# Altium schematic symbol library jlcpcb_2025_04_ferrites_extended_0805.schlib: 546 symbols (part 3 of 10)
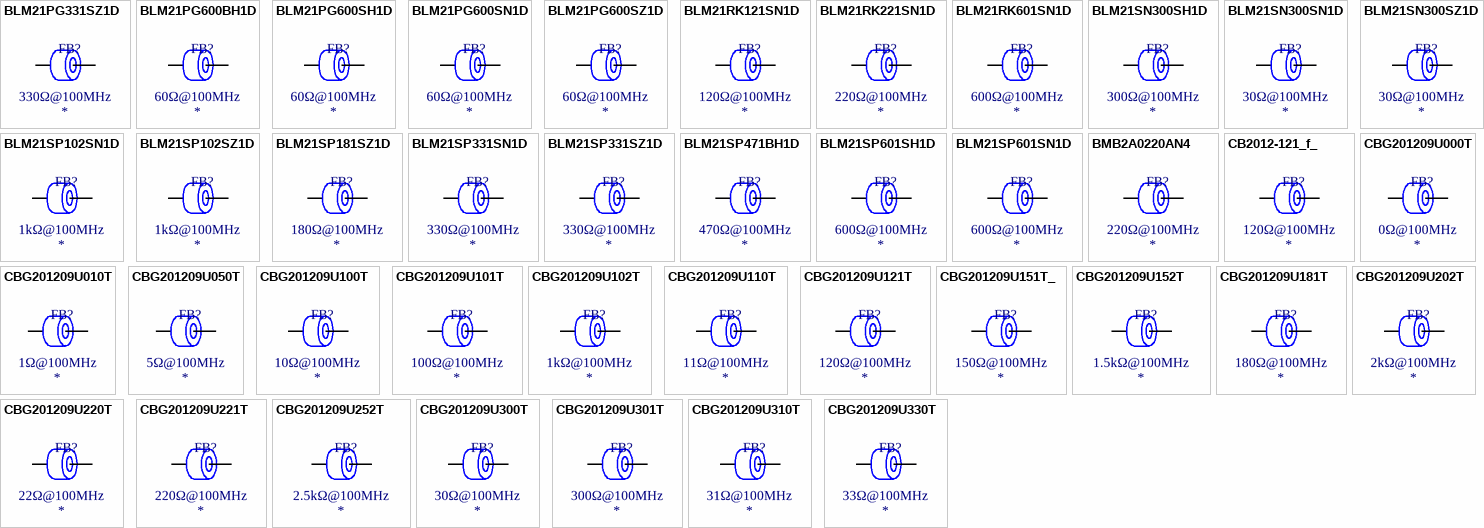
[diagram p15: symbols BLM21PG331SZ1D to CBG201209U330T]

## CBG201209U181T
designator FB?  Impedance @ Frequency: 180Ω@100MHz
Ferrite, 180Ω@100MHz, ±25%, 200mΩ, 400mA, SMD 0805; Manufacturer: FH(Guangdong Fenghua Advanced Tech); Manufacturer Part Number: CBG201209U181T; Package Size: 0805; JLCPCB Basic Part: No; JLCPCB Part Number: C668233; Supplier 1: LCSC; Category: Ferrite Beads; Supplier Part Number 1: C668233; Tolerance: ±25%; Rated Current: 400mA; DC Resistance: 200mΩ; RoHS: Yes; ComponentLink1Description: Datasheet; ComponentLink1URL: https://wmsc.lcsc.com/wmsc/upload/file/pdf/v2/lcsc/2304140030_FH--Guangdong-Fenghua-Advanced-Tech-CBG201209U181T_C668233.pdf; ComponentLink2Description: JLCPCB Part URL; ComponentLink2URL: https://jlcpcb.com/partdetail/C668233; ComponentLink3Description: LCSC Part URL; ComponentLink3URL: https://lcsc.com/product-detail/Ferrite-Beads_FH-Guangdong-Fenghua-Advanced-Tech-FH-Guangdong-Fenghua-Advanced-Tech-CBG201209U181T_C668233.html
footprint FB-0805 (0805 (2012M) Ferrite)
pins: 1, 2

## CBG201209U202T
designator FB?  Impedance @ Frequency: 2kΩ@100MHz
Ferrite, 2kΩ@100MHz, ±25%, 900mΩ, 50mA, SMD 0805; Manufacturer: FH(Guangdong Fenghua Advanced Tech); Manufacturer Part Number: CBG201209U202T; Package Size: 0805; JLCPCB Basic Part: No; JLCPCB Part Number: C20119; Supplier 1: LCSC; Category: Ferrite Beads; Supplier Part Number 1: C20119; Tolerance: ±25%; Rated Current: 50mA; DC Resistance: 900mΩ; RoHS: Yes; ComponentLink1Description: Datasheet; ComponentLink1URL: https://wmsc.lcsc.com/wmsc/upload/file/pdf/v2/lcsc/1811061714_FH--Guangdong-Fenghua-Advanced-Tech-CBG201209U202T_C20119.pdf; ComponentLink2Description: JLCPCB Part URL; ComponentLink2URL: https://jlcpcb.com/partdetail/C20119; ComponentLink3Description: LCSC Part URL; ComponentLink3URL: https://lcsc.com/product-detail/Ferrite-Beads_FH-Guangdong-Fenghua-Advanced-Tech-FH-Guangdong-Fenghua-Advanced-Tech-CBG201209U202T_C20119.html
footprint FB-0805 (0805 (2012M) Ferrite)
pins: 1, 2

## CBG201209U220T
designator FB?  Impedance @ Frequency: 22Ω@100MHz
Ferrite, 22Ω@100MHz, ±25%, SMD 0805; Manufacturer: FH(Guangdong Fenghua Advanced Tech); Manufacturer Part Number: CBG201209U220T; Package Size: 0805; JLCPCB Basic Part: No; JLCPCB Part Number: C74479; Supplier 1: LCSC; Category: Ferrite Beads; Supplier Part Number 1: C74479; Tolerance: ±25%; RoHS: Yes; ComponentLink1Description: Datasheet; ComponentLink1URL: https://wmsc.lcsc.com/wmsc/upload/file/pdf/v2/lcsc/2304140030_FH--Guangdong-Fenghua-Advanced-Tech-CBG201209U220T_C74479.pdf; ComponentLink2Description: JLCPCB Part URL; ComponentLink2URL: https://jlcpcb.com/partdetail/C74479; ComponentLink3Description: LCSC Part URL; ComponentLink3URL: https://lcsc.com/product-detail/Ferrite-Beads_FH-Guangdong-Fenghua-Advanced-Tech-FH-Guangdong-Fenghua-Advanced-Tech-CBG201209U220T_C74479.html
pins: 1, 2

## CBG201209U221T
designator FB?  Impedance @ Frequency: 220Ω@100MHz
Ferrite, 220Ω@100MHz, ±25%, 200mΩ, 400mA, SMD 0805; Manufacturer: FH(Guangdong Fenghua Advanced Tech); Manufacturer Part Number: CBG201209U221T; Package Size: 0805; JLCPCB Basic Part: No; JLCPCB Part Number: C124102; Supplier 1: LCSC; Category: Ferrite Beads; Supplier Part Number 1: C124102; Tolerance: ±25%; Rated Current: 400mA; DC Resistance: 200mΩ; RoHS: Yes; ComponentLink1Description: Datasheet; ComponentLink1URL: https://wmsc.lcsc.com/wmsc/upload/file/pdf/v2/lcsc/2304140030_FH--Guangdong-Fenghua-Advanced-Tech-CBG201209U221T_C124102.pdf; ComponentLink2Description: JLCPCB Part URL; ComponentLink2URL: https://jlcpcb.com/partdetail/C124102; ComponentLink3Description: LCSC Part URL; ComponentLink3URL: https://lcsc.com/product-detail/Ferrite-Beads_FH-Guangdong-Fenghua-Advanced-Tech-FH-Guangdong-Fenghua-Advanced-Tech-CBG201209U221T_C124102.html
footprint FB-0805 (0805 (2012M) Ferrite)
pins: 1, 2

## CBG201209U252T
designator FB?  Impedance @ Frequency: 2.5kΩ@100MHz
Ferrite, 2.5kΩ@100MHz, ±25%, 1.2Ω, 50mA, SMD 0805; Manufacturer: FH(Guangdong Fenghua Advanced Tech); Manufacturer Part Number: CBG201209U252T; Package Size: 0805; JLCPCB Basic Part: No; JLCPCB Part Number: C139142; Supplier 1: LCSC; Category: Ferrite Beads; Supplier Part Number 1: C139142; Tolerance: ±25%; Rated Current: 50mA; DC Resistance: 1.2Ω; RoHS: Yes; ComponentLink1Description: Datasheet; ComponentLink1URL: https://wmsc.lcsc.com/wmsc/upload/file/pdf/v2/lcsc/2304140030_FH--Guangdong-Fenghua-Advanced-Tech-CBG201209U252T_C139142.pdf; ComponentLink2Description: JLCPCB Part URL; ComponentLink2URL: https://jlcpcb.com/partdetail/C139142; ComponentLink3Description: LCSC Part URL; ComponentLink3URL: https://lcsc.com/product-detail/Ferrite-Beads_FH-Guangdong-Fenghua-Advanced-Tech-FH-Guangdong-Fenghua-Advanced-Tech-CBG201209U252T_C139142.html
footprint FB-0805 (0805 (2012M) Ferrite)
pins: 1, 2

## CBG201209U300T
designator FB?  Impedance @ Frequency: 30Ω@100MHz
Ferrite, 30Ω@100MHz, ±25%, SMD 0805; Manufacturer: FH(Guangdong Fenghua Advanced Tech); Manufacturer Part Number: CBG201209U300T; Package Size: 0805; JLCPCB Basic Part: No; JLCPCB Part Number: C139143; Supplier 1: LCSC; Category: Ferrite Beads; Supplier Part Number 1: C139143; Tolerance: ±25%; RoHS: Yes; ComponentLink1Description: Datasheet; ComponentLink1URL: https://wmsc.lcsc.com/wmsc/upload/file/pdf/v2/lcsc/2304140030_FH--Guangdong-Fenghua-Advanced-Tech-CBG201209U300T_C139143.pdf; ComponentLink2Description: JLCPCB Part URL; ComponentLink2URL: https://jlcpcb.com/partdetail/C139143; ComponentLink3Description: LCSC Part URL; ComponentLink3URL: https://lcsc.com/product-detail/Ferrite-Beads_FH-Guangdong-Fenghua-Advanced-Tech-FH-Guangdong-Fenghua-Advanced-Tech-CBG201209U300T_C139143.html
pins: 1, 2

## CBG201209U301T
designator FB?  Impedance @ Frequency: 300Ω@100MHz
Ferrite, 300Ω@100MHz, ±25%, 250mΩ, 400mA, SMD 0805; Manufacturer: FH(Guangdong Fenghua Advanced Tech); Manufacturer Part Number: CBG201209U301T; Package Size: 0805; JLCPCB Basic Part: No; JLCPCB Part Number: C124101; Supplier 1: LCSC; Category: Ferrite Beads; Supplier Part Number 1: C124101; Tolerance: ±25%; Rated Current: 400mA; DC Resistance: 250mΩ; RoHS: Yes; ComponentLink1Description: Datasheet; ComponentLink1URL: https://wmsc.lcsc.com/wmsc/upload/file/pdf/v2/lcsc/2304140030_FH--Guangdong-Fenghua-Advanced-Tech-CBG201209U301T_C124101.pdf; ComponentLink2Description: JLCPCB Part URL; ComponentLink2URL: https://jlcpcb.com/partdetail/C124101; ComponentLink3Description: LCSC Part URL; ComponentLink3URL: https://lcsc.com/product-detail/Ferrite-Beads_FH-Guangdong-Fenghua-Advanced-Tech-FH-Guangdong-Fenghua-Advanced-Tech-CBG201209U301T_C124101.html
footprint FB-0805 (0805 (2012M) Ferrite)
pins: 1, 2

## CBG201209U310T
designator FB?  Impedance @ Frequency: 31Ω@100MHz
Ferrite, 31Ω@100MHz, ±25%, 100mΩ, 900mA, SMD 0805; Manufacturer: FH(Guangdong Fenghua Advanced Tech); Manufacturer Part Number: CBG201209U310T; Package Size: 0805; JLCPCB Basic Part: No; JLCPCB Part Number: C74482; Supplier 1: LCSC; Category: Ferrite Beads; Supplier Part Number 1: C74482; Tolerance: ±25%; Rated Current: 900mA; DC Resistance: 100mΩ; RoHS: Yes; ComponentLink1Description: Datasheet; ComponentLink1URL: https://wmsc.lcsc.com/wmsc/upload/file/pdf/v2/lcsc/2304140030_FH--Guangdong-Fenghua-Advanced-Tech-CBG201209U310T_C74482.pdf; ComponentLink2Description: JLCPCB Part URL; ComponentLink2URL: https://jlcpcb.com/partdetail/C74482; ComponentLink3Description: LCSC Part URL; ComponentLink3URL: https://lcsc.com/product-detail/Ferrite-Beads_FH-Guangdong-Fenghua-Advanced-Tech-FH-Guangdong-Fenghua-Advanced-Tech-CBG201209U310T_C74482.html
footprint FB-0805 (0805 (2012M) Ferrite)
pins: 1, 2

## CBG201209U330T
designator FB?  Impedance @ Frequency: 33Ω@100MHz
Ferrite, 33Ω@100MHz, ±25%, SMD 0805; Manufacturer: FH(Guangdong Fenghua Advanced Tech); Manufacturer Part Number: CBG201209U330T; Package Size: 0805; JLCPCB Basic Part: No; JLCPCB Part Number: C139144; Supplier 1: LCSC; Category: Ferrite Beads; Supplier Part Number 1: C139144; Tolerance: ±25%; RoHS: Yes; ComponentLink1Description: Datasheet; ComponentLink1URL: https://wmsc.lcsc.com/wmsc/upload/file/pdf/v2/lcsc/2304140030_FH--Guangdong-Fenghua-Advanced-Tech-CBG201209U330T_C139144.pdf; ComponentLink2Description: JLCPCB Part URL; ComponentLink2URL: https://jlcpcb.com/partdetail/C139144; ComponentLink3Description: LCSC Part URL; ComponentLink3URL: https://lcsc.com/product-detail/Ferrite-Beads_FH-Guangdong-Fenghua-Advanced-Tech-FH-Guangdong-Fenghua-Advanced-Tech-CBG201209U330T_C139144.html
pins: 1, 2

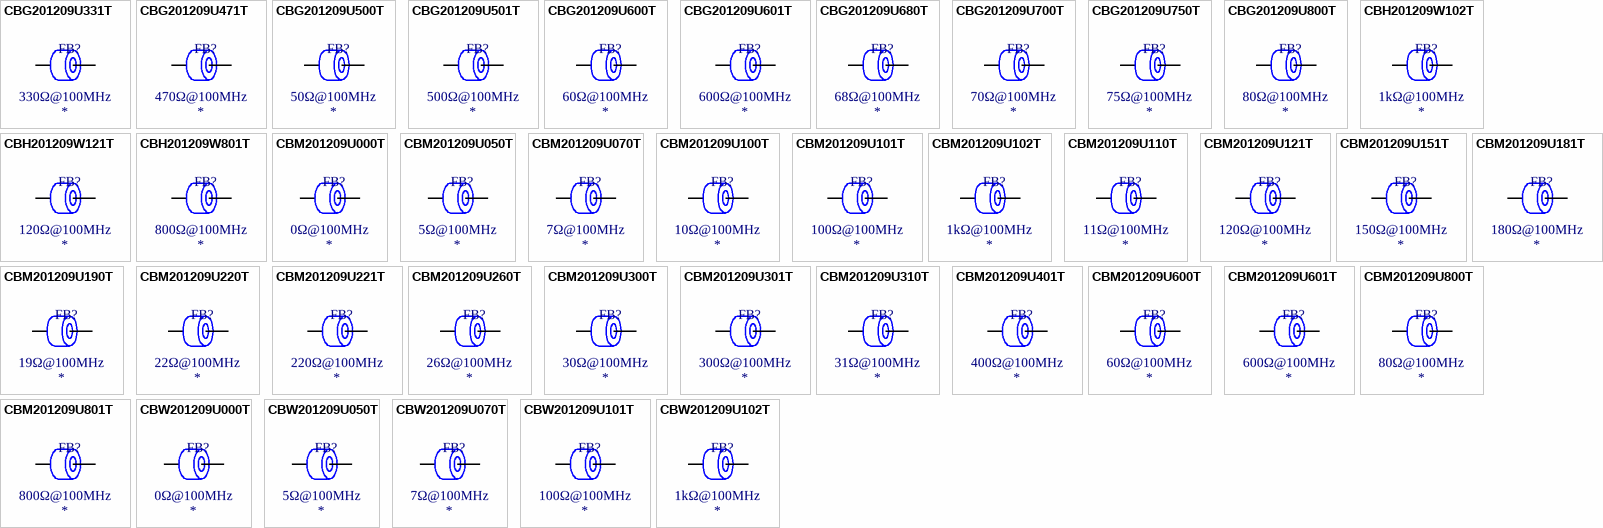
[diagram p3: symbols CBG201209U331T to CBW201209U102T]

## CBG201209U331T
designator FB?  Impedance @ Frequency: 330Ω@100MHz
Ferrite, 330Ω@100MHz, ±25%, SMD 0805; Manufacturer: FH(Guangdong Fenghua Advanced Tech); Manufacturer Part Number: CBG201209U331T; Package Size: 0805; JLCPCB Basic Part: No; JLCPCB Part Number: C139145; Supplier 1: LCSC; Category: Ferrite Beads; Supplier Part Number 1: C139145; Tolerance: ±25%; RoHS: Yes; ComponentLink1Description: Datasheet; ComponentLink1URL: https://wmsc.lcsc.com/wmsc/upload/file/pdf/v2/lcsc/2304140030_FH--Guangdong-Fenghua-Advanced-Tech-CBG201209U331T_C139145.pdf; ComponentLink2Description: JLCPCB Part URL; ComponentLink2URL: https://jlcpcb.com/partdetail/C139145; ComponentLink3Description: LCSC Part URL; ComponentLink3URL: https://lcsc.com/product-detail/Ferrite-Beads_FH-Guangdong-Fenghua-Advanced-Tech-FH-Guangdong-Fenghua-Advanced-Tech-CBG201209U331T_C139145.html
pins: 1, 2

## CBG201209U471T
designator FB?  Impedance @ Frequency: 470Ω@100MHz
Ferrite, 470Ω@100MHz, ±25%, SMD 0805; Manufacturer: FH(Guangdong Fenghua Advanced Tech); Manufacturer Part Number: CBG201209U471T; Package Size: 0805; JLCPCB Basic Part: No; JLCPCB Part Number: C139146; Supplier 1: LCSC; Category: Ferrite Beads; Supplier Part Number 1: C139146; Tolerance: ±25%; RoHS: Yes; ComponentLink1Description: Datasheet; ComponentLink1URL: https://wmsc.lcsc.com/wmsc/upload/file/pdf/v2/lcsc/2304140030_FH--Guangdong-Fenghua-Advanced-Tech-CBG201209U471T_C139146.pdf; ComponentLink2Description: JLCPCB Part URL; ComponentLink2URL: https://jlcpcb.com/partdetail/C139146; ComponentLink3Description: LCSC Part URL; ComponentLink3URL: https://lcsc.com/product-detail/Ferrite-Beads_FH-Guangdong-Fenghua-Advanced-Tech-FH-Guangdong-Fenghua-Advanced-Tech-CBG201209U471T_C139146.html
pins: 1, 2

## CBG201209U500T
designator FB?  Impedance @ Frequency: 50Ω@100MHz
Ferrite, 50Ω@100MHz, ±25%, 150mΩ, 900mA, SMD 0805; Manufacturer: FH(Guangdong Fenghua Advanced Tech); Manufacturer Part Number: CBG201209U500T; Package Size: 0805; JLCPCB Basic Part: No; JLCPCB Part Number: C668236; Supplier 1: LCSC; Category: Ferrite Beads; Supplier Part Number 1: C668236; Tolerance: ±25%; Rated Current: 900mA; DC Resistance: 150mΩ; RoHS: Yes; ComponentLink1Description: Datasheet; ComponentLink1URL: https://wmsc.lcsc.com/wmsc/upload/file/pdf/v2/lcsc/2304140030_FH--Guangdong-Fenghua-Advanced-Tech-CBG201209U500T_C668236.pdf; ComponentLink2Description: JLCPCB Part URL; ComponentLink2URL: https://jlcpcb.com/partdetail/C668236; ComponentLink3Description: LCSC Part URL; ComponentLink3URL: https://lcsc.com/product-detail/Ferrite-Beads_FH-Guangdong-Fenghua-Advanced-Tech-FH-Guangdong-Fenghua-Advanced-Tech-CBG201209U500T_C668236.html
footprint FB-0805 (0805 (2012M) Ferrite)
pins: 1, 2

## CBG201209U501T
designator FB?  Impedance @ Frequency: 500Ω@100MHz
Ferrite, 500Ω@100MHz, ±25%, 350mΩ, 300mA, SMD 0805; Manufacturer: FH(Guangdong Fenghua Advanced Tech); Manufacturer Part Number: CBG201209U501T; Package Size: 0805; JLCPCB Basic Part: No; JLCPCB Part Number: C139147; Supplier 1: LCSC; Category: Ferrite Beads; Supplier Part Number 1: C139147; Tolerance: ±25%; Rated Current: 300mA; DC Resistance: 350mΩ; RoHS: Yes; ComponentLink1Description: Datasheet; ComponentLink1URL: https://wmsc.lcsc.com/wmsc/upload/file/pdf/v2/lcsc/2304140030_FH--Guangdong-Fenghua-Advanced-Tech-CBG201209U501T_C139147.pdf; ComponentLink2Description: JLCPCB Part URL; ComponentLink2URL: https://jlcpcb.com/partdetail/C139147; ComponentLink3Description: LCSC Part URL; ComponentLink3URL: https://lcsc.com/product-detail/Ferrite-Beads_FH-Guangdong-Fenghua-Advanced-Tech-FH-Guangdong-Fenghua-Advanced-Tech-CBG201209U501T_C139147.html
footprint FB-0805 (0805 (2012M) Ferrite)
pins: 1, 2

## CBG201209U600T
designator FB?  Impedance @ Frequency: 60Ω@100MHz
Ferrite, 60Ω@100MHz, ±25%, 150mΩ, 900mA, SMD 0805; Manufacturer: FH(Guangdong Fenghua Advanced Tech); Manufacturer Part Number: CBG201209U600T; Package Size: 0805; JLCPCB Basic Part: No; JLCPCB Part Number: C87505; Supplier 1: LCSC; Category: Ferrite Beads; Supplier Part Number 1: C87505; Tolerance: ±25%; Rated Current: 900mA; DC Resistance: 150mΩ; RoHS: Yes; ComponentLink1Description: Datasheet; ComponentLink1URL: https://wmsc.lcsc.com/wmsc/upload/file/pdf/v2/lcsc/2304140030_FH--Guangdong-Fenghua-Advanced-Tech-CBG201209U600T_C87505.pdf; ComponentLink2Description: JLCPCB Part URL; ComponentLink2URL: https://jlcpcb.com/partdetail/C87505; ComponentLink3Description: LCSC Part URL; ComponentLink3URL: https://lcsc.com/product-detail/Ferrite-Beads_FH-Guangdong-Fenghua-Advanced-Tech-FH-Guangdong-Fenghua-Advanced-Tech-CBG201209U600T_C87505.html
footprint FB-0805 (0805 (2012M) Ferrite)
pins: 1, 2

## CBG201209U601T
designator FB?  Impedance @ Frequency: 600Ω@100MHz
Ferrite, 600Ω@100MHz, ±25%, 350mΩ, 300mA, SMD 0805; Manufacturer: FH(Guangdong Fenghua Advanced Tech); Manufacturer Part Number: CBG201209U601T; Package Size: 0805; JLCPCB Basic Part: No; JLCPCB Part Number: C124100; Supplier 1: LCSC; Category: Ferrite Beads; Supplier Part Number 1: C124100; Tolerance: ±25%; Rated Current: 300mA; DC Resistance: 350mΩ; RoHS: Yes; ComponentLink1Description: Datasheet; ComponentLink1URL: https://wmsc.lcsc.com/wmsc/upload/file/pdf/v2/lcsc/2304140030_FH--Guangdong-Fenghua-Advanced-Tech-CBG201209U601T_C124100.pdf; ComponentLink2Description: JLCPCB Part URL; ComponentLink2URL: https://jlcpcb.com/partdetail/C124100; ComponentLink3Description: LCSC Part URL; ComponentLink3URL: https://lcsc.com/product-detail/Ferrite-Beads_FH-Guangdong-Fenghua-Advanced-Tech-FH-Guangdong-Fenghua-Advanced-Tech-CBG201209U601T_C124100.html
footprint FB-0805 (0805 (2012M) Ferrite)
pins: 1, 2

## CBG201209U680T
designator FB?  Impedance @ Frequency: 68Ω@100MHz
Ferrite, 68Ω@100MHz, ±25%, SMD 0805; Manufacturer: FH(Guangdong Fenghua Advanced Tech); Manufacturer Part Number: CBG201209U680T; Package Size: 0805; JLCPCB Basic Part: No; JLCPCB Part Number: C1013; Supplier 1: LCSC; Category: Ferrite Beads; Supplier Part Number 1: C1013; Tolerance: ±25%; RoHS: Yes; ComponentLink1Description: Datasheet; ComponentLink1URL: https://wmsc.lcsc.com/wmsc/upload/file/pdf/v2/lcsc/2304140030_FH--Guangdong-Fenghua-Advanced-Tech-CBG201209U680T_C1013.pdf; ComponentLink2Description: JLCPCB Part URL; ComponentLink2URL: https://jlcpcb.com/partdetail/C1013; ComponentLink3Description: LCSC Part URL; ComponentLink3URL: https://lcsc.com/product-detail/Ferrite-Beads_FH-Guangdong-Fenghua-Advanced-Tech-FH-Guangdong-Fenghua-Advanced-Tech-CBG201209U680T_C1013.html
pins: 1, 2

## CBG201209U700T
designator FB?  Impedance @ Frequency: 70Ω@100MHz
Ferrite, 70Ω@100MHz, ±25%, 180mΩ, 500mA, SMD 0805; Manufacturer: FH(Guangdong Fenghua Advanced Tech); Manufacturer Part Number: CBG201209U700T; Package Size: 0805; JLCPCB Basic Part: No; JLCPCB Part Number: C401500; Supplier 1: LCSC; Category: Ferrite Beads; Supplier Part Number 1: C401500; Tolerance: ±25%; Rated Current: 500mA; DC Resistance: 180mΩ; RoHS: Yes; ComponentLink1Description: Datasheet; ComponentLink1URL: https://wmsc.lcsc.com/wmsc/upload/file/pdf/v2/lcsc/1912111437_FH--Guangdong-Fenghua-Advanced-Tech-CBG201209U700T_C401500.pdf; ComponentLink2Description: JLCPCB Part URL; ComponentLink2URL: https://jlcpcb.com/partdetail/C401500; ComponentLink3Description: LCSC Part URL; ComponentLink3URL: https://lcsc.com/product-detail/Ferrite-Beads_FH-Guangdong-Fenghua-Advanced-Tech-FH-Guangdong-Fenghua-Advanced-Tech-CBG201209U700T_C401500.html
footprint FB-0805 (0805 (2012M) Ferrite)
pins: 1, 2

## CBG201209U750T
designator FB?  Impedance @ Frequency: 75Ω@100MHz
Ferrite, 75Ω@100MHz, ±25%, SMD 0805; Manufacturer: FH(Guangdong Fenghua Advanced Tech); Manufacturer Part Number: CBG201209U750T; Package Size: 0805; JLCPCB Basic Part: No; JLCPCB Part Number: C139148; Supplier 1: LCSC; Category: Ferrite Beads; Supplier Part Number 1: C139148; Tolerance: ±25%; RoHS: Yes; ComponentLink1Description: Datasheet; ComponentLink1URL: https://wmsc.lcsc.com/wmsc/upload/file/pdf/v2/lcsc/2304140030_FH--Guangdong-Fenghua-Advanced-Tech-CBG201209U750T_C139148.pdf; ComponentLink2Description: JLCPCB Part URL; ComponentLink2URL: https://jlcpcb.com/partdetail/C139148; ComponentLink3Description: LCSC Part URL; ComponentLink3URL: https://lcsc.com/product-detail/Ferrite-Beads_FH-Guangdong-Fenghua-Advanced-Tech-FH-Guangdong-Fenghua-Advanced-Tech-CBG201209U750T_C139148.html
pins: 1, 2

## CBG201209U800T
designator FB?  Impedance @ Frequency: 80Ω@100MHz
Ferrite, 80Ω@100MHz, ±25%, 180mΩ, 500mA, SMD 0805; Manufacturer: FH(Guangdong Fenghua Advanced Tech); Manufacturer Part Number: CBG201209U800T; Package Size: 0805; JLCPCB Basic Part: No; JLCPCB Part Number: C139149; Supplier 1: LCSC; Category: Ferrite Beads; Supplier Part Number 1: C139149; Tolerance: ±25%; Rated Current: 500mA; DC Resistance: 180mΩ; RoHS: Yes; ComponentLink1Description: Datasheet; ComponentLink1URL: https://wmsc.lcsc.com/wmsc/upload/file/pdf/v2/lcsc/2304140030_FH--Guangdong-Fenghua-Advanced-Tech-CBG201209U800T_C139149.pdf; ComponentLink2Description: JLCPCB Part URL; ComponentLink2URL: https://jlcpcb.com/partdetail/C139149; ComponentLink3Description: LCSC Part URL; ComponentLink3URL: https://lcsc.com/product-detail/Ferrite-Beads_FH-Guangdong-Fenghua-Advanced-Tech-FH-Guangdong-Fenghua-Advanced-Tech-CBG201209U800T_C139149.html
footprint FB-0805 (0805 (2012M) Ferrite)
pins: 1, 2

## CBH201209W102T
designator FB?  Impedance @ Frequency: 1kΩ@100MHz
Ferrite, 1kΩ@100MHz, ±25%, 500mΩ, 180mA, SMD 0805; Manufacturer: FH(Guangdong Fenghua Advanced Tech); Manufacturer Part Number: CBH201209W102T; Package Size: 0805; JLCPCB Basic Part: No; JLCPCB Part Number: C401488; Supplier 1: LCSC; Category: Ferrite Beads; Supplier Part Number 1: C401488; Tolerance: ±25%; Rated Current: 180mA; DC Resistance: 500mΩ; RoHS: Yes; ComponentLink1Description: Datasheet; ComponentLink1URL: https://wmsc.lcsc.com/wmsc/upload/file/pdf/v2/lcsc/1912111437_FH--Guangdong-Fenghua-Advanced-Tech-CBH201209W102T_C401488.pdf; ComponentLink2Description: JLCPCB Part URL; ComponentLink2URL: https://jlcpcb.com/partdetail/C401488; ComponentLink3Description: LCSC Part URL; ComponentLink3URL: https://lcsc.com/product-detail/Ferrite-Beads_FH-Guangdong-Fenghua-Advanced-Tech-FH-Guangdong-Fenghua-Advanced-Tech-CBH201209W102T_C401488.html
footprint FB-0805 (0805 (2012M) Ferrite)
pins: 1, 2

## CBH201209W121T
designator FB?  Impedance @ Frequency: 120Ω@100MHz
Ferrite, 120Ω@100MHz, ±25%, 150mΩ, 400mA, SMD 0805; Manufacturer: FH(Guangdong Fenghua Advanced Tech); Manufacturer Part Number: CBH201209W121T; Package Size: 0805; JLCPCB Basic Part: No; JLCPCB Part Number: C401487; Supplier 1: LCSC; Category: Ferrite Beads; Supplier Part Number 1: C401487; Tolerance: ±25%; Rated Current: 400mA; DC Resistance: 150mΩ; RoHS: Yes; ComponentLink1Description: Datasheet; ComponentLink1URL: https://wmsc.lcsc.com/wmsc/upload/file/pdf/v2/lcsc/1912111437_FH--Guangdong-Fenghua-Advanced-Tech-CBH201209W121T_C401487.pdf; ComponentLink2Description: JLCPCB Part URL; ComponentLink2URL: https://jlcpcb.com/partdetail/C401487; ComponentLink3Description: LCSC Part URL; ComponentLink3URL: https://lcsc.com/product-detail/Ferrite-Beads_FH-Guangdong-Fenghua-Advanced-Tech-FH-Guangdong-Fenghua-Advanced-Tech-CBH201209W121T_C401487.html
footprint FB-0805 (0805 (2012M) Ferrite)
pins: 1, 2

## CBH201209W801T
designator FB?  Impedance @ Frequency: 800Ω@100MHz
Ferrite, 800Ω@100MHz, ±25%, 500mΩ, 180mA, SMD 0805; Manufacturer: FH(Guangdong Fenghua Advanced Tech); Manufacturer Part Number: CBH201209W801T; Package Size: 0805; JLCPCB Basic Part: No; JLCPCB Part Number: C139162; Supplier 1: LCSC; Category: Ferrite Beads; Supplier Part Number 1: C139162; Tolerance: ±25%; Rated Current: 180mA; DC Resistance: 500mΩ; RoHS: Yes; ComponentLink1Description: Datasheet; ComponentLink1URL: https://wmsc.lcsc.com/wmsc/upload/file/pdf/v2/lcsc/2304140030_FH--Guangdong-Fenghua-Advanced-Tech-CBH201209W801T_C139162.pdf; ComponentLink2Description: JLCPCB Part URL; ComponentLink2URL: https://jlcpcb.com/partdetail/C139162; ComponentLink3Description: LCSC Part URL; ComponentLink3URL: https://lcsc.com/product-detail/Ferrite-Beads_FH-Guangdong-Fenghua-Advanced-Tech-FH-Guangdong-Fenghua-Advanced-Tech-CBH201209W801T_C139162.html
footprint FB-0805 (0805 (2012M) Ferrite)
pins: 1, 2

## CBM201209U000T
designator FB?  Impedance @ Frequency: 0Ω@100MHz
Ferrite, 0Ω@100MHz, 10mΩ, 6A, SMD 0805; Manufacturer: FH(Guangdong Fenghua Advanced Tech); Manufacturer Part Number: CBM201209U000T; Package Size: 0805; JLCPCB Basic Part: No; JLCPCB Part Number: C394429; Supplier 1: LCSC; Category: Ferrite Beads; Supplier Part Number 1: C394429; Rated Current: 6A; DC Resistance: 10mΩ; RoHS: Yes; ComponentLink1Description: Datasheet; ComponentLink1URL: https://wmsc.lcsc.com/wmsc/upload/file/pdf/v2/lcsc/2304140030_FH--Guangdong-Fenghua-Advanced-Tech-CBM201209U000T_C394429.pdf; ComponentLink2Description: JLCPCB Part URL; ComponentLink2URL: https://jlcpcb.com/partdetail/C394429; ComponentLink3Description: LCSC Part URL; ComponentLink3URL: https://lcsc.com/product-detail/Ferrite-Beads_FH-Guangdong-Fenghua-Advanced-Tech-FH-Guangdong-Fenghua-Advanced-Tech-CBM201209U000T_C394429.html
pins: 1, 2

## CBM201209U050T
designator FB?  Impedance @ Frequency: 5Ω@100MHz
Ferrite, 5Ω@100MHz, 10mΩ, 6A, SMD 0805; Manufacturer: FH(Guangdong Fenghua Advanced Tech); Manufacturer Part Number: CBM201209U050T; Package Size: 0805; JLCPCB Basic Part: No; JLCPCB Part Number: C98486; Supplier 1: LCSC; Category: Ferrite Beads; Supplier Part Number 1: C98486; Rated Current: 6A; DC Resistance: 10mΩ; RoHS: Yes; ComponentLink1Description: Datasheet; ComponentLink1URL: https://wmsc.lcsc.com/wmsc/upload/file/pdf/v2/lcsc/2304140030_FH--Guangdong-Fenghua-Advanced-Tech-CBM201209U050T_C98486.pdf; ComponentLink2Description: JLCPCB Part URL; ComponentLink2URL: https://jlcpcb.com/partdetail/C98486; ComponentLink3Description: LCSC Part URL; ComponentLink3URL: https://lcsc.com/product-detail/Ferrite-Beads_FH-Guangdong-Fenghua-Advanced-Tech-FH-Guangdong-Fenghua-Advanced-Tech-CBM201209U050T_C98486.html
pins: 1, 2

## CBM201209U070T
designator FB?  Impedance @ Frequency: 7Ω@100MHz
Ferrite, 7Ω@100MHz, 10mΩ, 6A, SMD 0805; Manufacturer: FH(Guangdong Fenghua Advanced Tech); Manufacturer Part Number: CBM201209U070T; Package Size: 0805; JLCPCB Basic Part: No; JLCPCB Part Number: C394430; Supplier 1: LCSC; Category: Ferrite Beads; Supplier Part Number 1: C394430; Rated Current: 6A; DC Resistance: 10mΩ; RoHS: Yes; ComponentLink1Description: Datasheet; ComponentLink1URL: https://wmsc.lcsc.com/wmsc/upload/file/pdf/v2/lcsc/2304140030_FH--Guangdong-Fenghua-Advanced-Tech-CBM201209U070T_C394430.pdf; ComponentLink2Description: JLCPCB Part URL; ComponentLink2URL: https://jlcpcb.com/partdetail/C394430; ComponentLink3Description: LCSC Part URL; ComponentLink3URL: https://lcsc.com/product-detail/Ferrite-Beads_FH-Guangdong-Fenghua-Advanced-Tech-FH-Guangdong-Fenghua-Advanced-Tech-CBM201209U070T_C394430.html
pins: 1, 2

## CBM201209U100T
designator FB?  Impedance @ Frequency: 10Ω@100MHz
Ferrite, 10Ω@100MHz, SMD 0805; Manufacturer: FH (Guangdong Fenghua Advanced Tech); Manufacturer Part Number: CBM201209U100T; Package Size: 0805; JLCPCB Basic Part: No; JLCPCB Part Number: C394431; Supplier 1: LCSC; Category: Ferrite Beads; Supplier Part Number 1: C394431; RoHS: Yes; ComponentLink1Description: Datasheet; ComponentLink2Description: JLCPCB Part URL; ComponentLink2URL: https://jlcpcb.com/partdetail/C394431; ComponentLink3Description: LCSC Part URL; ComponentLink3URL: https://lcsc.com/product-detail/Ferrite-Beads_FH-Guangdong-Fenghua-Advanced-Tech-FH-Guangdong-Fenghua-Advanced-Tech-CBM201209U100T_C394431.html
pins: 1, 2

## CBM201209U101T
designator FB?  Impedance @ Frequency: 100Ω@100MHz
Ferrite, 100Ω@100MHz, ±25%, 50mΩ, 3A, SMD 0805; Manufacturer: FH(Guangdong Fenghua Advanced Tech); Manufacturer Part Number: CBM201209U101T; Package Size: 0805; JLCPCB Basic Part: No; JLCPCB Part Number: C394432; Supplier 1: LCSC; Category: Ferrite Beads; Supplier Part Number 1: C394432; Tolerance: ±25%; Rated Current: 3A; DC Resistance: 50mΩ; RoHS: Yes; ComponentLink1Description: Datasheet; ComponentLink1URL: https://wmsc.lcsc.com/wmsc/upload/file/pdf/v2/lcsc/2304140030_FH--Guangdong-Fenghua-Advanced-Tech-CBM201209U101T_C394432.pdf; ComponentLink2Description: JLCPCB Part URL; ComponentLink2URL: https://jlcpcb.com/partdetail/C394432; ComponentLink3Description: LCSC Part URL; ComponentLink3URL: https://lcsc.com/product-detail/Ferrite-Beads_FH-Guangdong-Fenghua-Advanced-Tech-FH-Guangdong-Fenghua-Advanced-Tech-CBM201209U101T_C394432.html
footprint FB-0805 (0805 (2012M) Ferrite)
pins: 1, 2

## CBM201209U102T
designator FB?  Impedance @ Frequency: 1kΩ@100MHz
Ferrite, 1kΩ@100MHz, ±25%, 120mΩ, 1.5A, SMD 0805; Manufacturer: FH(Guangdong Fenghua Advanced Tech); Manufacturer Part Number: CBM201209U102T; Package Size: 0805; JLCPCB Basic Part: No; JLCPCB Part Number: C394433; Supplier 1: LCSC; Category: Ferrite Beads; Supplier Part Number 1: C394433; Tolerance: ±25%; Rated Current: 1.5A; DC Resistance: 120mΩ; RoHS: Yes; ComponentLink1Description: Datasheet; ComponentLink1URL: https://wmsc.lcsc.com/wmsc/upload/file/pdf/v2/lcsc/2304140030_FH--Guangdong-Fenghua-Advanced-Tech-CBM201209U102T_C394433.pdf; ComponentLink2Description: JLCPCB Part URL; ComponentLink2URL: https://jlcpcb.com/partdetail/C394433; ComponentLink3Description: LCSC Part URL; ComponentLink3URL: https://lcsc.com/product-detail/Ferrite-Beads_FH-Guangdong-Fenghua-Advanced-Tech-FH-Guangdong-Fenghua-Advanced-Tech-CBM201209U102T_C394433.html
footprint FB-0805 (0805 (2012M) Ferrite)
pins: 1, 2

## CBM201209U110T
designator FB?  Impedance @ Frequency: 11Ω@100MHz
Ferrite, 11Ω@100MHz, 10mΩ, 6A, SMD 0805; Manufacturer: FH(Guangdong Fenghua Advanced Tech); Manufacturer Part Number: CBM201209U110T; Package Size: 0805; JLCPCB Basic Part: No; JLCPCB Part Number: C316448; Supplier 1: LCSC; Category: Ferrite Beads; Supplier Part Number 1: C316448; Rated Current: 6A; DC Resistance: 10mΩ; RoHS: Yes; ComponentLink1Description: Datasheet; ComponentLink1URL: https://wmsc.lcsc.com/wmsc/upload/file/pdf/v2/lcsc/2304140030_FH--Guangdong-Fenghua-Advanced-Tech-CBM201209U110T_C316448.pdf; ComponentLink2Description: JLCPCB Part URL; ComponentLink2URL: https://jlcpcb.com/partdetail/C316448; ComponentLink3Description: LCSC Part URL; ComponentLink3URL: https://lcsc.com/product-detail/Ferrite-Beads_FH-Guangdong-Fenghua-Advanced-Tech-FH-Guangdong-Fenghua-Advanced-Tech-CBM201209U110T_C316448.html
pins: 1, 2

## CBM201209U121T
designator FB?  Impedance @ Frequency: 120Ω@100MHz
Ferrite, 120Ω@100MHz, ±25%, 50mΩ, 3A, SMD 0805; Manufacturer: FH(Guangdong Fenghua Advanced Tech); Manufacturer Part Number: CBM201209U121T; Package Size: 0805; JLCPCB Basic Part: No; JLCPCB Part Number: C93624; Supplier 1: LCSC; Category: Ferrite Beads; Supplier Part Number 1: C93624; Tolerance: ±25%; Rated Current: 3A; DC Resistance: 50mΩ; RoHS: Yes; ComponentLink1Description: Datasheet; ComponentLink1URL: https://wmsc.lcsc.com/wmsc/upload/file/pdf/v2/lcsc/2304140030_FH--Guangdong-Fenghua-Advanced-Tech-CBM201209U121T_C93624.pdf; ComponentLink2Description: JLCPCB Part URL; ComponentLink2URL: https://jlcpcb.com/partdetail/C93624; ComponentLink3Description: LCSC Part URL; ComponentLink3URL: https://lcsc.com/product-detail/Ferrite-Beads_FH-Guangdong-Fenghua-Advanced-Tech-FH-Guangdong-Fenghua-Advanced-Tech-CBM201209U121T_C93624.html
footprint FB-0805 (0805 (2012M) Ferrite)
pins: 1, 2

## CBM201209U151T
designator FB?  Impedance @ Frequency: 150Ω@100MHz
Ferrite, 150Ω@100MHz, ±25%, 80mΩ, 2.5A, SMD 0805; Manufacturer: FH(Guangdong Fenghua Advanced Tech); Manufacturer Part Number: CBM201209U151T; Package Size: 0805; JLCPCB Basic Part: No; JLCPCB Part Number: C394434; Supplier 1: LCSC; Category: Ferrite Beads; Supplier Part Number 1: C394434; Tolerance: ±25%; Rated Current: 2.5A; DC Resistance: 80mΩ; RoHS: Yes; ComponentLink1Description: Datasheet; ComponentLink1URL: https://wmsc.lcsc.com/wmsc/upload/file/pdf/v2/lcsc/2304140030_FH--Guangdong-Fenghua-Advanced-Tech-CBM201209U151T_C394434.pdf; ComponentLink2Description: JLCPCB Part URL; ComponentLink2URL: https://jlcpcb.com/partdetail/C394434; ComponentLink3Description: LCSC Part URL; ComponentLink3URL: https://lcsc.com/product-detail/Ferrite-Beads_FH-Guangdong-Fenghua-Advanced-Tech-FH-Guangdong-Fenghua-Advanced-Tech-CBM201209U151T_C394434.html
footprint FB-0805 (0805 (2012M) Ferrite)
pins: 1, 2

## CBM201209U181T
designator FB?  Impedance @ Frequency: 180Ω@100MHz
Ferrite, 180Ω@100MHz, ±25%, 80mΩ, 2.5A, SMD 0805; Manufacturer: FH(Guangdong Fenghua Advanced Tech); Manufacturer Part Number: CBM201209U181T; Package Size: 0805; JLCPCB Basic Part: No; JLCPCB Part Number: C394436; Supplier 1: LCSC; Category: Ferrite Beads; Supplier Part Number 1: C394436; Tolerance: ±25%; Rated Current: 2.5A; DC Resistance: 80mΩ; RoHS: Yes; ComponentLink1Description: Datasheet; ComponentLink1URL: https://wmsc.lcsc.com/wmsc/upload/file/pdf/v2/lcsc/2304140030_FH--Guangdong-Fenghua-Advanced-Tech-CBM201209U181T_C394436.pdf; ComponentLink2Description: JLCPCB Part URL; ComponentLink2URL: https://jlcpcb.com/partdetail/C394436; ComponentLink3Description: LCSC Part URL; ComponentLink3URL: https://lcsc.com/product-detail/Ferrite-Beads_FH-Guangdong-Fenghua-Advanced-Tech-FH-Guangdong-Fenghua-Advanced-Tech-CBM201209U181T_C394436.html
footprint FB-0805 (0805 (2012M) Ferrite)
pins: 1, 2

## CBM201209U190T
designator FB?  Impedance @ Frequency: 19Ω@100MHz
Ferrite, 19Ω@100MHz, 10mΩ, 6A, SMD 0805; Manufacturer: FH(Guangdong Fenghua Advanced Tech); Manufacturer Part Number: CBM201209U190T; Package Size: 0805; JLCPCB Basic Part: No; JLCPCB Part Number: C394437; Supplier 1: LCSC; Category: Ferrite Beads; Supplier Part Number 1: C394437; Rated Current: 6A; DC Resistance: 10mΩ; RoHS: Yes; ComponentLink1Description: Datasheet; ComponentLink1URL: https://wmsc.lcsc.com/wmsc/upload/file/pdf/v2/lcsc/2304140030_FH--Guangdong-Fenghua-Advanced-Tech-CBM201209U190T_C394437.pdf; ComponentLink2Description: JLCPCB Part URL; ComponentLink2URL: https://jlcpcb.com/partdetail/C394437; ComponentLink3Description: LCSC Part URL; ComponentLink3URL: https://lcsc.com/product-detail/Ferrite-Beads_FH-Guangdong-Fenghua-Advanced-Tech-FH-Guangdong-Fenghua-Advanced-Tech-CBM201209U190T_C394437.html
pins: 1, 2

## CBM201209U220T
designator FB?  Impedance @ Frequency: 22Ω@100MHz
Ferrite, 22Ω@100MHz, ±25%, SMD 0805; Manufacturer: FH (Guangdong Fenghua Advanced Tech); Manufacturer Part Number: CBM201209U220T; Package Size: 0805; JLCPCB Basic Part: No; JLCPCB Part Number: C2836781; Supplier 1: LCSC; Category: Ferrite Beads; Supplier Part Number 1: C2836781; Tolerance: ±25%; RoHS: Yes; ComponentLink1Description: Datasheet; ComponentLink1URL: https://wmsc.lcsc.com/wmsc/upload/file/pdf/v2/lcsc/2202131930_FH--Guangdong-Fenghua-Advanced-Tech-CBM201209U220T_C2836781.pdf; ComponentLink2Description: JLCPCB Part URL; ComponentLink2URL: https://jlcpcb.com/partdetail/C2836781; ComponentLink3Description: LCSC Part URL; ComponentLink3URL: https://lcsc.com/product-detail/Ferrite-Beads_FH-Guangdong-Fenghua-Advanced-Tech-FH-Guangdong-Fenghua-Advanced-Tech-CBM201209U220T_C2836781.html
pins: 1, 2

## CBM201209U221T
designator FB?  Impedance @ Frequency: 220Ω@100MHz
Ferrite, 220Ω@100MHz, ±25%, 80mΩ, 2.5A, SMD 0805; Manufacturer: FH(Guangdong Fenghua Advanced Tech); Manufacturer Part Number: CBM201209U221T; Package Size: 0805; JLCPCB Basic Part: No; JLCPCB Part Number: C139166; Supplier 1: LCSC; Category: Ferrite Beads; Supplier Part Number 1: C139166; Tolerance: ±25%; Rated Current: 2.5A; DC Resistance: 80mΩ; RoHS: Yes; ComponentLink1Description: Datasheet; ComponentLink1URL: https://wmsc.lcsc.com/wmsc/upload/file/pdf/v2/lcsc/2304140030_FH--Guangdong-Fenghua-Advanced-Tech-CBM201209U221T_C139166.pdf; ComponentLink2Description: JLCPCB Part URL; ComponentLink2URL: https://jlcpcb.com/partdetail/C139166; ComponentLink3Description: LCSC Part URL; ComponentLink3URL: https://lcsc.com/product-detail/Ferrite-Beads_FH-Guangdong-Fenghua-Advanced-Tech-FH-Guangdong-Fenghua-Advanced-Tech-CBM201209U221T_C139166.html
footprint FB-0805 (0805 (2012M) Ferrite)
pins: 1, 2

## CBM201209U260T
designator FB?  Impedance @ Frequency: 26Ω@100MHz
Ferrite, 26Ω@100MHz, ±25%, SMD 0805; Manufacturer: FH(Guangdong Fenghua Advanced Tech); Manufacturer Part Number: CBM201209U260T; Package Size: 0805; JLCPCB Basic Part: No; JLCPCB Part Number: C394438; Supplier 1: LCSC; Category: Ferrite Beads; Supplier Part Number 1: C394438; Tolerance: ±25%; RoHS: Yes; ComponentLink1Description: Datasheet; ComponentLink1URL: https://wmsc.lcsc.com/wmsc/upload/file/pdf/v2/lcsc/2304140030_FH--Guangdong-Fenghua-Advanced-Tech-CBM201209U260T_C394438.pdf; ComponentLink2Description: JLCPCB Part URL; ComponentLink2URL: https://jlcpcb.com/partdetail/C394438; ComponentLink3Description: LCSC Part URL; ComponentLink3URL: https://lcsc.com/product-detail/Ferrite-Beads_FH-Guangdong-Fenghua-Advanced-Tech-FH-Guangdong-Fenghua-Advanced-Tech-CBM201209U260T_C394438.html
pins: 1, 2

## CBM201209U300T
designator FB?  Impedance @ Frequency: 30Ω@100MHz
Ferrite, 30Ω@100MHz, ±25%, 10mΩ, 6A, SMD 0805; Manufacturer: FH(Guangdong Fenghua Advanced Tech); Manufacturer Part Number: CBM201209U300T; Package Size: 0805; JLCPCB Basic Part: No; JLCPCB Part Number: C268310; Supplier 1: LCSC; Category: Ferrite Beads; Supplier Part Number 1: C268310; Tolerance: ±25%; Rated Current: 6A; DC Resistance: 10mΩ; RoHS: Yes; ComponentLink1Description: Datasheet; ComponentLink1URL: https://wmsc.lcsc.com/wmsc/upload/file/pdf/v2/lcsc/2304140030_FH--Guangdong-Fenghua-Advanced-Tech-CBM201209U300T_C268310.pdf; ComponentLink2Description: JLCPCB Part URL; ComponentLink2URL: https://jlcpcb.com/partdetail/C268310; ComponentLink3Description: LCSC Part URL; ComponentLink3URL: https://lcsc.com/product-detail/Ferrite-Beads_FH-Guangdong-Fenghua-Advanced-Tech-FH-Guangdong-Fenghua-Advanced-Tech-CBM201209U300T_C268310.html
footprint FB-0805 (0805 (2012M) Ferrite)
pins: 1, 2

## CBM201209U301T
designator FB?  Impedance @ Frequency: 300Ω@100MHz
Ferrite, 300Ω@100MHz, ±25%, 80mΩ, 2.5A, SMD 0805; Manufacturer: FH(Guangdong Fenghua Advanced Tech); Manufacturer Part Number: CBM201209U301T; Package Size: 0805; JLCPCB Basic Part: No; JLCPCB Part Number: C75661; Supplier 1: LCSC; Category: Ferrite Beads; Supplier Part Number 1: C75661; Tolerance: ±25%; Rated Current: 2.5A; DC Resistance: 80mΩ; RoHS: Yes; ComponentLink1Description: Datasheet; ComponentLink1URL: https://wmsc.lcsc.com/wmsc/upload/file/pdf/v2/lcsc/2304140030_FH--Guangdong-Fenghua-Advanced-Tech-CBM201209U301T_C75661.pdf; ComponentLink2Description: JLCPCB Part URL; ComponentLink2URL: https://jlcpcb.com/partdetail/C75661; ComponentLink3Description: LCSC Part URL; ComponentLink3URL: https://lcsc.com/product-detail/Ferrite-Beads_FH-Guangdong-Fenghua-Advanced-Tech-FH-Guangdong-Fenghua-Advanced-Tech-CBM201209U301T_C75661.html
footprint FB-0805 (0805 (2012M) Ferrite)
pins: 1, 2

## CBM201209U310T
designator FB?  Impedance @ Frequency: 31Ω@100MHz
Ferrite, 31Ω@100MHz, ±25%, SMD 0805; Manufacturer: FH(Guangdong Fenghua Advanced Tech); Manufacturer Part Number: CBM201209U310T; Package Size: 0805; JLCPCB Basic Part: No; JLCPCB Part Number: C394439; Supplier 1: LCSC; Category: Ferrite Beads; Supplier Part Number 1: C394439; Tolerance: ±25%; RoHS: Yes; ComponentLink1Description: Datasheet; ComponentLink1URL: https://wmsc.lcsc.com/wmsc/upload/file/pdf/v2/lcsc/1912111437_FH--Guangdong-Fenghua-Advanced-Tech-CBM201209U310T_C394439.pdf; ComponentLink2Description: JLCPCB Part URL; ComponentLink2URL: https://jlcpcb.com/partdetail/C394439; ComponentLink3Description: LCSC Part URL; ComponentLink3URL: https://lcsc.com/product-detail/Ferrite-Beads_FH-Guangdong-Fenghua-Advanced-Tech-FH-Guangdong-Fenghua-Advanced-Tech-CBM201209U310T_C394439.html
pins: 1, 2

## CBM201209U401T
designator FB?  Impedance @ Frequency: 400Ω@100MHz
Ferrite, 400Ω@100MHz, ±25%, SMD 0805; Manufacturer: FH(Guangdong Fenghua Advanced Tech); Manufacturer Part Number: CBM201209U401T; Package Size: 0805; JLCPCB Basic Part: No; JLCPCB Part Number: C2894319; Supplier 1: LCSC; Category: Ferrite Beads; Supplier Part Number 1: C2894319; Tolerance: ±25%; RoHS: Yes; ComponentLink1Description: Datasheet; ComponentLink1URL: https://wmsc.lcsc.com/wmsc/upload/file/pdf/v2/lcsc/2109092030_FH--Guangdong-Fenghua-Advanced-Tech-CBM201209U401T_C2894319.pdf; ComponentLink2Description: JLCPCB Part URL; ComponentLink2URL: https://jlcpcb.com/partdetail/C2894319; ComponentLink3Description: LCSC Part URL; ComponentLink3URL: https://lcsc.com/product-detail/Ferrite-Beads_FH-Guangdong-Fenghua-Advanced-Tech-FH-Guangdong-Fenghua-Advanced-Tech-CBM201209U401T_C2894319.html
pins: 1, 2

## CBM201209U600T
designator FB?  Impedance @ Frequency: 60Ω@100MHz
Ferrite, 60Ω@100MHz, ±25%, 30mΩ, 3.5A, SMD 0805; Manufacturer: FH(Guangdong Fenghua Advanced Tech); Manufacturer Part Number: CBM201209U600T; Package Size: 0805; JLCPCB Basic Part: No; JLCPCB Part Number: C139167; Supplier 1: LCSC; Category: Ferrite Beads; Supplier Part Number 1: C139167; Tolerance: ±25%; Rated Current: 3.5A; DC Resistance: 30mΩ; RoHS: Yes; ComponentLink1Description: Datasheet; ComponentLink1URL: https://wmsc.lcsc.com/wmsc/upload/file/pdf/v2/lcsc/2304140030_FH--Guangdong-Fenghua-Advanced-Tech-CBM201209U600T_C139167.pdf; ComponentLink2Description: JLCPCB Part URL; ComponentLink2URL: https://jlcpcb.com/partdetail/C139167; ComponentLink3Description: LCSC Part URL; ComponentLink3URL: https://lcsc.com/product-detail/Ferrite-Beads_FH-Guangdong-Fenghua-Advanced-Tech-FH-Guangdong-Fenghua-Advanced-Tech-CBM201209U600T_C139167.html
footprint FB-0805 (0805 (2012M) Ferrite)
pins: 1, 2

## CBM201209U601T
designator FB?  Impedance @ Frequency: 600Ω@100MHz
Ferrite, 600Ω@100MHz, ±25%, 100mΩ, 2A, SMD 0805; Manufacturer: FH(Guangdong Fenghua Advanced Tech); Manufacturer Part Number: CBM201209U601T; Package Size: 0805; JLCPCB Basic Part: No; JLCPCB Part Number: C139168; Supplier 1: LCSC; Category: Ferrite Beads; Supplier Part Number 1: C139168; Tolerance: ±25%; Rated Current: 2A; DC Resistance: 100mΩ; RoHS: Yes; ComponentLink1Description: Datasheet; ComponentLink1URL: https://wmsc.lcsc.com/wmsc/upload/file/pdf/v2/lcsc/2304140030_FH--Guangdong-Fenghua-Advanced-Tech-CBM201209U601T_C139168.pdf; ComponentLink2Description: JLCPCB Part URL; ComponentLink2URL: https://jlcpcb.com/partdetail/C139168; ComponentLink3Description: LCSC Part URL; ComponentLink3URL: https://lcsc.com/product-detail/Ferrite-Beads_FH-Guangdong-Fenghua-Advanced-Tech-FH-Guangdong-Fenghua-Advanced-Tech-CBM201209U601T_C139168.html
footprint FB-0805 (0805 (2012M) Ferrite)
pins: 1, 2

## CBM201209U800T
designator FB?  Impedance @ Frequency: 80Ω@100MHz
Ferrite, 80Ω@100MHz, ±25%, 40mΩ, 3A, SMD 0805; Manufacturer: FH(Guangdong Fenghua Advanced Tech); Manufacturer Part Number: CBM201209U800T; Package Size: 0805; JLCPCB Basic Part: No; JLCPCB Part Number: C394440; Supplier 1: LCSC; Category: Ferrite Beads; Supplier Part Number 1: C394440; Tolerance: ±25%; Rated Current: 3A; DC Resistance: 40mΩ; RoHS: Yes; ComponentLink1Description: Datasheet; ComponentLink1URL: https://wmsc.lcsc.com/wmsc/upload/file/pdf/v2/lcsc/2304140030_FH--Guangdong-Fenghua-Advanced-Tech-CBM201209U800T_C394440.pdf; ComponentLink2Description: JLCPCB Part URL; ComponentLink2URL: https://jlcpcb.com/partdetail/C394440; ComponentLink3Description: LCSC Part URL; ComponentLink3URL: https://lcsc.com/product-detail/Ferrite-Beads_FH-Guangdong-Fenghua-Advanced-Tech-FH-Guangdong-Fenghua-Advanced-Tech-CBM201209U800T_C394440.html
footprint FB-0805 (0805 (2012M) Ferrite)
pins: 1, 2

## CBM201209U801T
designator FB?  Impedance @ Frequency: 800Ω@100MHz
Ferrite, 800Ω@100MHz, SMD 0805; Manufacturer: FH(Guangdong Fenghua Advanced Tech); Manufacturer Part Number: CBM201209U801T; Package Size: 0805; JLCPCB Basic Part: No; JLCPCB Part Number: C394441; Supplier 1: LCSC; Category: Ferrite Beads; Supplier Part Number 1: C394441; RoHS: Yes; ComponentLink1Description: Datasheet; ComponentLink2Description: JLCPCB Part URL; ComponentLink2URL: https://jlcpcb.com/partdetail/C394441; ComponentLink3Description: LCSC Part URL; ComponentLink3URL: https://lcsc.com/product-detail/Ferrite-Beads_FH-Guangdong-Fenghua-Advanced-Tech-FH-Guangdong-Fenghua-Advanced-Tech-CBM201209U801T_C394441.html
pins: 1, 2

## CBW201209U000T
designator FB?  Impedance @ Frequency: 0Ω@100MHz
Ferrite, 0Ω@100MHz, 30mΩ, 3A, SMD 0805; Manufacturer: FH(Guangdong Fenghua Advanced Tech); Manufacturer Part Number: CBW201209U000T; Package Size: 0805; JLCPCB Basic Part: No; JLCPCB Part Number: C139184; Supplier 1: LCSC; Category: Ferrite Beads; Supplier Part Number 1: C139184; Rated Current: 3A; DC Resistance: 30mΩ; RoHS: Yes; ComponentLink1Description: Datasheet; ComponentLink1URL: https://wmsc.lcsc.com/wmsc/upload/file/pdf/v2/lcsc/2304140030_FH--Guangdong-Fenghua-Advanced-Tech-CBW201209U000T_C139184.pdf; ComponentLink2Description: JLCPCB Part URL; ComponentLink2URL: https://jlcpcb.com/partdetail/C139184; ComponentLink3Description: LCSC Part URL; ComponentLink3URL: https://lcsc.com/product-detail/Ferrite-Beads_FH-Guangdong-Fenghua-Advanced-Tech-FH-Guangdong-Fenghua-Advanced-Tech-CBW201209U000T_C139184.html
pins: 1, 2

## CBW201209U050T
designator FB?  Impedance @ Frequency: 5Ω@100MHz
Ferrite, 5Ω@100MHz, 30mΩ, 3A, SMD 0805; Manufacturer: FH(Guangdong Fenghua Advanced Tech); Manufacturer Part Number: CBW201209U050T; Package Size: 0805; JLCPCB Basic Part: No; JLCPCB Part Number: C361671; Supplier 1: LCSC; Category: Ferrite Beads; Supplier Part Number 1: C361671; Rated Current: 3A; DC Resistance: 30mΩ; RoHS: Yes; ComponentLink1Description: Datasheet; ComponentLink1URL: https://wmsc.lcsc.com/wmsc/upload/file/pdf/v2/lcsc/2304140030_FH--Guangdong-Fenghua-Advanced-Tech-CBW201209U050T_C361671.pdf; ComponentLink2Description: JLCPCB Part URL; ComponentLink2URL: https://jlcpcb.com/partdetail/C361671; ComponentLink3Description: LCSC Part URL; ComponentLink3URL: https://lcsc.com/product-detail/Ferrite-Beads_FH-Guangdong-Fenghua-Advanced-Tech-FH-Guangdong-Fenghua-Advanced-Tech-CBW201209U050T_C361671.html
pins: 1, 2

## CBW201209U070T
designator FB?  Impedance @ Frequency: 7Ω@100MHz
Ferrite, 7Ω@100MHz, 30mΩ, 3A, SMD 0805; Manufacturer: FH(Guangdong Fenghua Advanced Tech); Manufacturer Part Number: CBW201209U070T; Package Size: 0805; JLCPCB Basic Part: No; JLCPCB Part Number: C394480; Supplier 1: LCSC; Category: Ferrite Beads; Supplier Part Number 1: C394480; Rated Current: 3A; DC Resistance: 30mΩ; RoHS: Yes; ComponentLink1Description: Datasheet; ComponentLink1URL: https://wmsc.lcsc.com/wmsc/upload/file/pdf/v2/lcsc/2304140030_FH--Guangdong-Fenghua-Advanced-Tech-CBW201209U070T_C394480.pdf; ComponentLink2Description: JLCPCB Part URL; ComponentLink2URL: https://jlcpcb.com/partdetail/C394480; ComponentLink3Description: LCSC Part URL; ComponentLink3URL: https://lcsc.com/product-detail/Ferrite-Beads_FH-Guangdong-Fenghua-Advanced-Tech-FH-Guangdong-Fenghua-Advanced-Tech-CBW201209U070T_C394480.html
pins: 1, 2

## CBW201209U101T
designator FB?  Impedance @ Frequency: 100Ω@100MHz
Ferrite, 100Ω@100MHz, ±25%, 100mΩ, 2.5A, SMD 0805; Manufacturer: FH(Guangdong Fenghua Advanced Tech); Manufacturer Part Number: CBW201209U101T; Package Size: 0805; JLCPCB Basic Part: No; JLCPCB Part Number: C74487; Supplier 1: LCSC; Category: Ferrite Beads; Supplier Part Number 1: C74487; Tolerance: ±25%; Rated Current: 2.5A; DC Resistance: 100mΩ; RoHS: Yes; ComponentLink1Description: Datasheet; ComponentLink1URL: https://wmsc.lcsc.com/wmsc/upload/file/pdf/v2/lcsc/2304140030_FH--Guangdong-Fenghua-Advanced-Tech-CBW201209U101T_C74487.pdf; ComponentLink2Description: JLCPCB Part URL; ComponentLink2URL: https://jlcpcb.com/partdetail/C74487; ComponentLink3Description: LCSC Part URL; ComponentLink3URL: https://lcsc.com/product-detail/Ferrite-Beads_FH-Guangdong-Fenghua-Advanced-Tech-FH-Guangdong-Fenghua-Advanced-Tech-CBW201209U101T_C74487.html
footprint FB-0805 (0805 (2012M) Ferrite)
pins: 1, 2

## CBW201209U102T
designator FB?  Impedance @ Frequency: 1kΩ@100MHz
Ferrite, 1kΩ@100MHz, ±25%, 400mΩ, 800mA, SMD 0805; Manufacturer: FH(Guangdong Fenghua Advanced Tech); Manufacturer Part Number: CBW201209U102T; Package Size: 0805; JLCPCB Basic Part: No; JLCPCB Part Number: C44838; Supplier 1: LCSC; Category: Ferrite Beads; Supplier Part Number 1: C44838; Tolerance: ±25%; Rated Current: 800mA; DC Resistance: 400mΩ; RoHS: Yes; ComponentLink1Description: Datasheet; ComponentLink1URL: https://wmsc.lcsc.com/wmsc/upload/file/pdf/v2/lcsc/2304140030_FH--Guangdong-Fenghua-Advanced-Tech-CBW201209U102T_C44838.pdf; ComponentLink2Description: JLCPCB Part URL; ComponentLink2URL: https://jlcpcb.com/partdetail/C44838; ComponentLink3Description: LCSC Part URL; ComponentLink3URL: https://lcsc.com/product-detail/Ferrite-Beads_FH-Guangdong-Fenghua-Advanced-Tech-FH-Guangdong-Fenghua-Advanced-Tech-CBW201209U102T_C44838.html
footprint FB-0805 (0805 (2012M) Ferrite)
pins: 1, 2

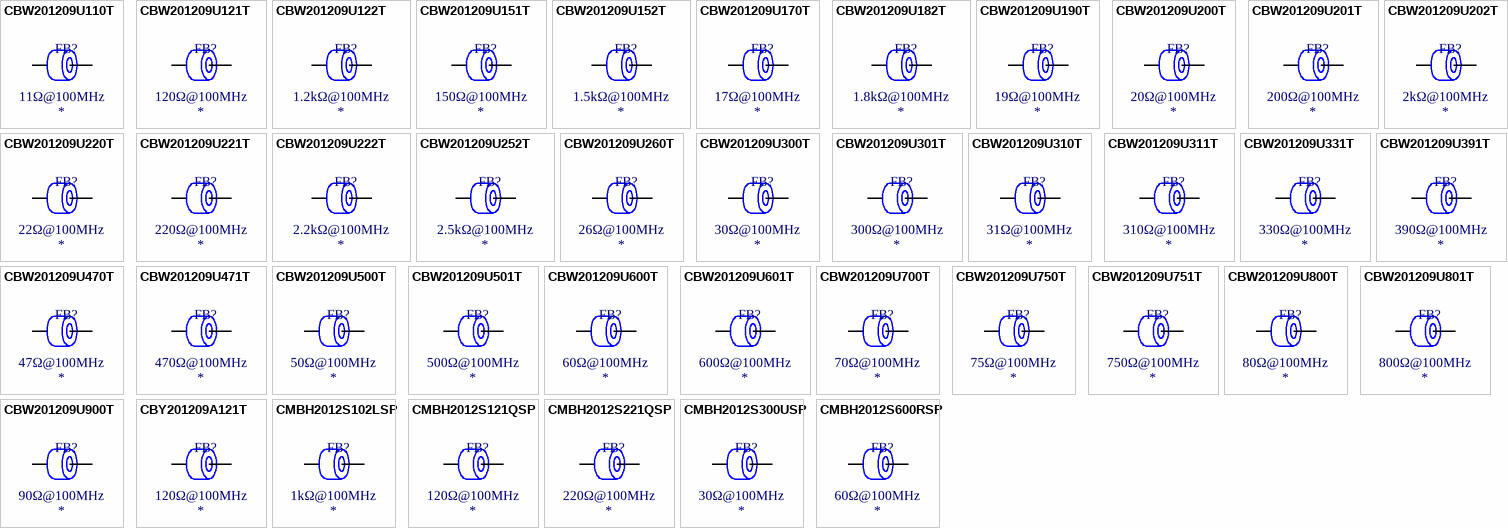
[diagram p4: symbols CBW201209U110T to CMBH2012S600RSP]

## CBW201209U110T
designator FB?  Impedance @ Frequency: 11Ω@100MHz
Ferrite, 11Ω@100MHz, 30mΩ, 3A, SMD 0805; Manufacturer: FH(Guangdong Fenghua Advanced Tech); Manufacturer Part Number: CBW201209U110T; Package Size: 0805; JLCPCB Basic Part: No; JLCPCB Part Number: C394481; Supplier 1: LCSC; Category: Ferrite Beads; Supplier Part Number 1: C394481; Rated Current: 3A; DC Resistance: 30mΩ; RoHS: Yes; ComponentLink1Description: Datasheet; ComponentLink1URL: https://wmsc.lcsc.com/wmsc/upload/file/pdf/v2/lcsc/2304140030_FH--Guangdong-Fenghua-Advanced-Tech-CBW201209U110T_C394481.pdf; ComponentLink2Description: JLCPCB Part URL; ComponentLink2URL: https://jlcpcb.com/partdetail/C394481; ComponentLink3Description: LCSC Part URL; ComponentLink3URL: https://lcsc.com/product-detail/Ferrite-Beads_FH-Guangdong-Fenghua-Advanced-Tech-FH-Guangdong-Fenghua-Advanced-Tech-CBW201209U110T_C394481.html
pins: 1, 2

## CBW201209U121T
designator FB?  Impedance @ Frequency: 120Ω@100MHz
Ferrite, 120Ω@100MHz, ±25%, 100mΩ, 2A, SMD 0805; Manufacturer: FH(Guangdong Fenghua Advanced Tech); Manufacturer Part Number: CBW201209U121T; Package Size: 0805; JLCPCB Basic Part: No; JLCPCB Part Number: C139186; Supplier 1: LCSC; Category: Ferrite Beads; Supplier Part Number 1: C139186; Tolerance: ±25%; Rated Current: 2A; DC Resistance: 100mΩ; RoHS: Yes; ComponentLink1Description: Datasheet; ComponentLink1URL: https://wmsc.lcsc.com/wmsc/upload/file/pdf/v2/lcsc/2304140030_FH--Guangdong-Fenghua-Advanced-Tech-CBW201209U121T_C139186.pdf; ComponentLink2Description: JLCPCB Part URL; ComponentLink2URL: https://jlcpcb.com/partdetail/C139186; ComponentLink3Description: LCSC Part URL; ComponentLink3URL: https://lcsc.com/product-detail/Ferrite-Beads_FH-Guangdong-Fenghua-Advanced-Tech-FH-Guangdong-Fenghua-Advanced-Tech-CBW201209U121T_C139186.html
footprint FB-0805 (0805 (2012M) Ferrite)
pins: 1, 2

## CBW201209U122T
designator FB?  Impedance @ Frequency: 1.2kΩ@100MHz
Ferrite, 1.2kΩ@100MHz, ±25%, 450mΩ, 500mA, SMD 0805; Manufacturer: FH(Guangdong Fenghua Advanced Tech); Manufacturer Part Number: CBW201209U122T; Package Size: 0805; JLCPCB Basic Part: No; JLCPCB Part Number: C185856; Supplier 1: LCSC; Category: Ferrite Beads; Supplier Part Number 1: C185856; Tolerance: ±25%; Rated Current: 500mA; DC Resistance: 450mΩ; RoHS: Yes; ComponentLink1Description: Datasheet; ComponentLink1URL: https://wmsc.lcsc.com/wmsc/upload/file/pdf/v2/lcsc/2304140030_FH--Guangdong-Fenghua-Advanced-Tech-CBW201209U122T_C185856.pdf; ComponentLink2Description: JLCPCB Part URL; ComponentLink2URL: https://jlcpcb.com/partdetail/C185856; ComponentLink3Description: LCSC Part URL; ComponentLink3URL: https://lcsc.com/product-detail/Ferrite-Beads_FH-Guangdong-Fenghua-Advanced-Tech-FH-Guangdong-Fenghua-Advanced-Tech-CBW201209U122T_C185856.html
footprint FB-0805 (0805 (2012M) Ferrite)
pins: 1, 2

## CBW201209U151T
designator FB?  Impedance @ Frequency: 150Ω@100MHz
Ferrite, 150Ω@100MHz, ±25%, 100mΩ, 2A, SMD 0805; Manufacturer: FH(Guangdong Fenghua Advanced Tech); Manufacturer Part Number: CBW201209U151T; Package Size: 0805; JLCPCB Basic Part: No; JLCPCB Part Number: C69517; Supplier 1: LCSC; Category: Ferrite Beads; Supplier Part Number 1: C69517; Tolerance: ±25%; Rated Current: 2A; DC Resistance: 100mΩ; RoHS: Yes; ComponentLink1Description: Datasheet; ComponentLink1URL: https://wmsc.lcsc.com/wmsc/upload/file/pdf/v2/lcsc/2304140030_FH--Guangdong-Fenghua-Advanced-Tech-CBW201209U151T_C69517.pdf; ComponentLink2Description: JLCPCB Part URL; ComponentLink2URL: https://jlcpcb.com/partdetail/C69517; ComponentLink3Description: LCSC Part URL; ComponentLink3URL: https://lcsc.com/product-detail/Ferrite-Beads_FH-Guangdong-Fenghua-Advanced-Tech-FH-Guangdong-Fenghua-Advanced-Tech-CBW201209U151T-_C69517.html
footprint FB-0805 (0805 (2012M) Ferrite)
pins: 1, 2